# Altium integrated library 34830-0801.IntLib: 1 symbol
Pins are listed as number, name and electrical type; pins without a type are passive.

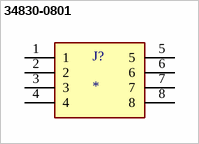
[diagram p0: symbol 34830-0801]

## 34830-0801
designator J?
MX150â„¢ 2x4 Dual Row Right Angle Header, 8 Circuits, Polarization A, Black, Solder Tail; MP: 34830-0801; Package: None; Price: None; Value: *; Availability: Unavailable
footprint MOLEX_34830-0801
pins: 1, 2, 3, 4, 5, 6, 7, 8